# Altium schematic symbol library AD8620ARZ.SchLib: 1 symbol
Pins are listed as number, name and electrical type; pins without a type are passive.

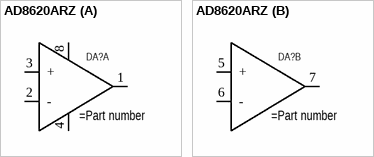
[diagram p0: symbol AD8620ARZ]

## AD8620ARZ
designator DA?
Precision, Very Low Noise, Low Input Bias Current, Wide Bandwidth JFET Operational Amplifier
part A pins: 1 Out, 2 -, 3 +, 4 GND, 8 Vdd
part B pins: 5 +, 6 -, 7 Out